# EAGLE library part ADS7834 (library CEDT_JANUARY_2015_v6)
ADS7834 12-Bit High-Speed, Low-Power Sampling ANALOG-TO-DIGITAL CONVERTER Datasheet <http://www.ti.com/lit/ds/sbas098a/sbas098a.pdf>
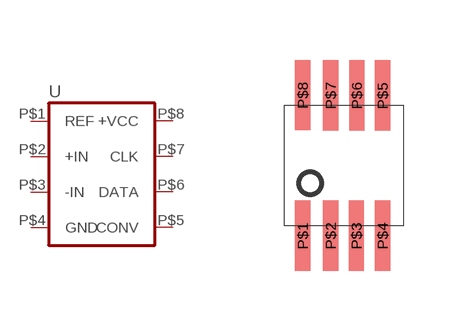
[diagram p70: symbol with the pads of SOP-8; footprint SOP-8]

Designator prefix -

## ADS7834  [SOP-8]
P$1  REF  pas
P$2  +IN  pas
P$3  -IN  pas
P$4  GND  pas
P$5  CONV  pas
P$6  DATA  pas
P$7  CLK  pas
P$8  +VCC  pas

## Footprint SOP-8 (pad centres in mm)
smd 0.38 x 1.762: P$1 0.476,-0.254; P$2 1.175,-0.254; P$3 1.821,-0.254; P$4 2.475,-0.254; P$5 2.475,3.256; P$6 1.829,3.256; P$7 1.175,3.256; P$8 0.476,3.267